# Altium footprint library 64 LQFP(LH).PcbLib: 1 footprints
Each footprint in its own frame and in the unit in brackets; x right, y up, seen from the top. Pads: shape width x height; smd on the part's side, far side on the other; paste and mask are expansions set on the pad; w line width, h text height; cw(c..) or ccw(c..) is an arc to the next point about the centre after c.
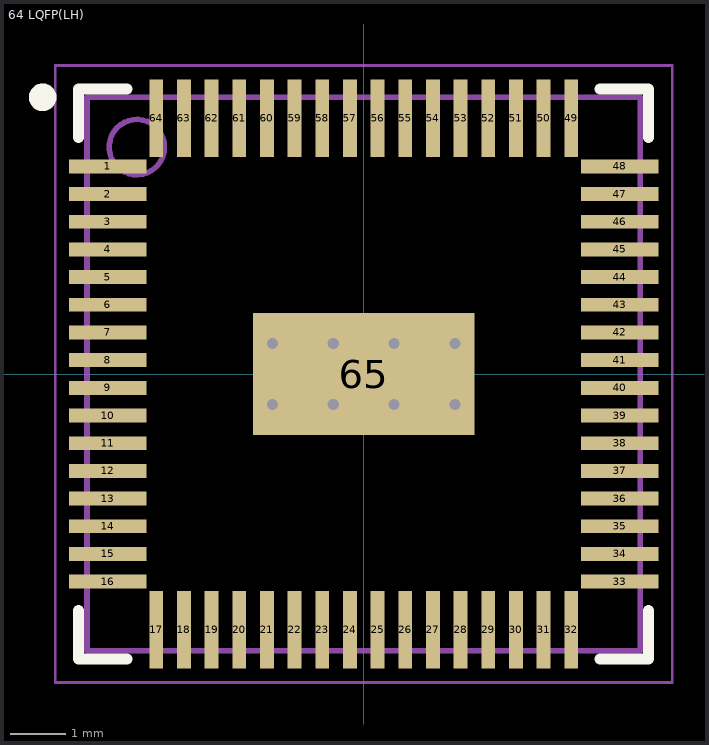
[diagram p0: the footprint, top view; thin cyan lines are the x and y axes]

## 64 LQFP(LH) [mm] "MKE16F512 VLH16"
height 1.6
pads (65):
  rect 1.4x0.25 smd: 1(-4.625,3.75) 2(-4.625,3.25) 3(-4.625,2.75) 4(-4.625,2.25) 5(-4.625,1.75) 6(-4.625,1.25) 7(-4.625,0.75) 8(-4.625,0.25) 9(-4.625,-0.25) 10(-4.625,-0.75) 11(-4.625,-1.25) 12(-4.625,-1.75) 13(-4.625,-2.25) 14(-4.625,-2.75) 15(-4.625,-3.25) 16(-4.625,-3.75) 33(4.625,-3.75) 34(4.625,-3.25) 35(4.625,-2.75) 36(4.625,-2.25) 37(4.625,-1.75) 38(4.625,-1.25) 39(4.625,-0.75) 40(4.625,-0.25) 41(4.625,0.25) 42(4.625,0.75) 43(4.625,1.25) 44(4.625,1.75) 45(4.625,2.25) 46(4.625,2.75) 47(4.625,3.25) 48(4.625,3.75)
  rect 0.25x1.4 smd: 17(-3.75,-4.625) 18(-3.25,-4.625) 19(-2.75,-4.625) 20(-2.25,-4.625) 21(-1.75,-4.625) 22(-1.25,-4.625) 23(-0.75,-4.625) 24(-0.25,-4.625) 25(0.25,-4.625) 26(0.75,-4.625) 27(1.25,-4.625) 28(1.75,-4.625) 29(2.25,-4.625) 30(2.75,-4.625) 31(3.25,-4.625) 32(3.75,-4.625) 49(3.75,4.625) 50(3.25,4.625) 51(2.75,4.625) 52(2.25,4.625) 53(1.75,4.625) 54(1.25,4.625) 55(0.75,4.625) 56(0.25,4.625) 57(-0.25,4.625) 58(-0.75,4.625) 59(-1.25,4.625) 60(-1.75,4.625) 61(-2.25,4.625) 62(-2.75,4.625) 63(-3.25,4.625) 64(-3.75,4.625)
  rect 4x2.2 smd: 65(0,0)
via -1.65,0.55 diameter 0.5 hole 0.2
via -0.55,0.55 diameter 0.5 hole 0.2
via 0.55,0.55 diameter 0.5 hole 0.2
via 1.65,0.55 diameter 0.5 hole 0.2
via -1.65,-0.55 diameter 0.5 hole 0.2
via -0.55,-0.55 diameter 0.5 hole 0.2
via 0.55,-0.55 diameter 0.5 hole 0.2
via 1.65,-0.55 diameter 0.5 hole 0.2
Top Overlay:
  circle w0.25: c-5.8,5 r0.125
  lines w0.2: -5.15,-4.275 -5.15,-5.15 -4.275,-5.15 ; -5.15,4.275 -5.15,5.15 -4.275,5.15 ; 4.275,-5.15 5.15,-5.15 5.15,-4.275 ; 4.275,5.15 5.15,5.15 5.15,4.275
Mechanical 13:
  circle w0.1: c-4.1,4.1 r0.5
  lines w0.1: -5,-5 -5,5 5,5 5,-5 -5,-5
Mechanical 15:
  lines w0.05: -5.575,-5.575 -5.575,5.575 5.575,5.575 5.575,-5.575 -5.575,-5.575
  lines w0.1: -0.5,0 0.5,0 ; 0,-0.5 0,0.5
3D body: height 1.6, standoff 0.05, extent -5,-5 5,5